# EAGLE library part LM358 (library texas)
LM358 Datasheet <http://www.ti.com/lit/ds/symlink/lm358.pdf>
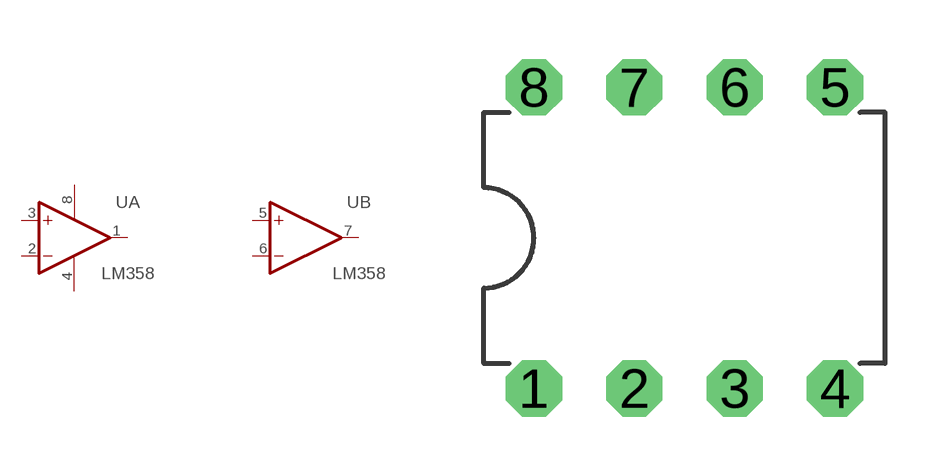
[diagram p0: symbol with the pads of DIL8; footprint DIL8]

Designator prefix U; gates A=OPAMP+- B=OPAMP

## LM358/DIP  [DIL8]
1  A:OUT  out
2  A:-IN  in
3  A:+IN  in
4  A:GND  pwr
5  B:+IN  in
6  B:-IN  in
7  B:OUT  out
8  A:VCC  pwr

## Footprint DIL8 (pad centres in mm)
drill 0.813 pad 1.422 octagon: 1 -3.81,-3.81; 2 -1.27,-3.81; 3 1.27,-3.81; 4 3.81,-3.81; 5 3.81,3.81; 6 1.27,3.81; 7 -1.27,3.81; 8 -3.81,3.81